# Altium footprint library ADXRS450.PcbLib: 2 footprints
Each footprint in its own frame and in the unit in brackets; x right, y up, seen from the top. Pads: shape width x height; smd on the part's side, far side on the other; paste and mask are expansions set on the pad; w line width, h text height; cw(c..) or ccw(c..) is an arc to the next point about the centre after c.
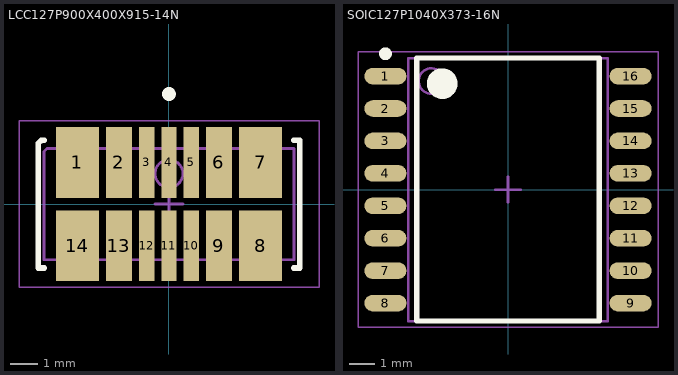
[diagram p0: the footprints below, top view; thin cyan lines are the x and y axes]

## LCC127P900X400X915-14N [mm] "LCC, 14-Pins, Body 9.00x4.00mmx9.15mm, Pitch 1.27mm, IPC Medium Density"
height 9.15
pads (14):
  rect 1.55x2.55 smd: 1(-3.3,1.5) 7(3.3,1.5) 8(3.3,-1.5) 14(-3.3,-1.5)
  rect 0.95x2.55 smd: 2(-1.8,1.5) 6(1.8,1.5) 9(1.8,-1.5) 13(-1.8,-1.5)
  rect 0.55x2.55 smd: 3(-0.8,1.5) 4(0,1.5) 5(0.8,1.5) 10(0.8,-1.5) 11(0,-1.5) 12(-0.8,-1.5)
Top Overlay:
  circle w0.25: c0,3.962 r0.125
  lines w0.2: -4.7,-0.04 -4.7,-2.3 -4.485,-2.3 ; -4.7,0.04 -4.7,2.193 -4.592,2.3 -4.485,2.3 ; 4.485,-2.3 4.7,-2.3 4.7,-0.04 ; 4.485,2.3 4.7,2.3 4.7,0.04
Mechanical 13:
  circle w0.1: c0,1.1 r0.5
  lines w0.1: -4.5,-2 4.5,-2 4.5,2 -4.392,2 -4.5,1.892 -4.5,-2
Mechanical 15:
  lines w0.05: -5.4,-3 5.4,-3 5.4,3 -5.4,3 -5.4,-3
  lines w0.1: -0.5,0 0.5,0 ; 0,-0.5 0,0.5
3D body: height 9.15, standoff 0, extent -4.5,-2 4.5,2

## SOIC127P1040X373-16N [mm] "SOIC, 16-Leads, Body 10.30x7.80mm, Pitch 1.27mm, IPC Medium Density"
height 3.73
pads (16):
  oval 1.65x0.65 smd: 1(-4.8,4.445) 2(-4.8,3.175) 3(-4.8,1.905) 4(-4.8,0.635) 5(-4.8,-0.635) 6(-4.8,-1.905) 7(-4.8,-3.175) 8(-4.8,-4.445) 9(4.8,-4.445) 10(4.8,-3.175) 11(4.8,-1.905) 12(4.8,-0.635) 13(4.8,0.635) 14(4.8,1.905) 15(4.8,3.175) 16(4.8,4.445)
Top Overlay:
  circle w0.6: c-2.575,4.15 r0.3
  circle w0.25: c-4.8,5.32 r0.125
  lines w0.2: -3.575,-5.15 3.575,-5.15 3.575,5.15 -3.575,5.15 -3.575,-5.15
Mechanical 13:
  circle w0.1: c-3,4.25 r0.5
  lines w0.1: -3.9,-5.15 3.9,-5.15 3.9,5.15 -3.9,5.15 -3.9,-5.15
Mechanical 15:
  lines w0.05: -5.875,-5.4 5.875,-5.4 5.875,5.4 -5.875,5.4 -5.875,-5.4
  lines w0.1: -0.5,0 0.5,0 ; 0,-0.5 0,0.5
3D body "SOIC127P1040X373-16N.step": height 3.73, standoff 0, extent -5.21,-5.15 5.21,5.15